# EAGLE library part X9241AWSIZ (library Intersil_By_element14_Batch_1)
Non-Volatile/Low Power/2-Wire/64 Taps
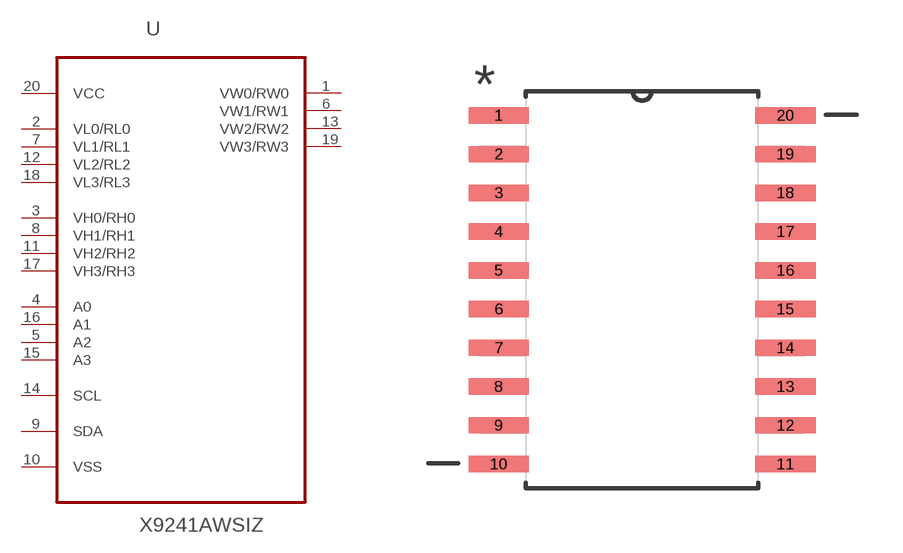
[diagram p229: symbol with the pads of SOIC127P1032X265-20N; footprint SOIC127P1032X265-20N]

Designator prefix U

## X9241AWSIZ (MPN: X9241AWSIZ; OC_FARNELL: 1562074; OC_NEWARK: 79K9068; PACKAGE: SOIC-20; SUPPLIER: Intersil)  [SOIC127P1032X265-20N]
1  VW0/RW0  out
2  VL0/RL0  in
3  VH0/RH0  in
4  A0  in
5  A2  in
6  VW1/RW1  out
7  VL1/RL1  in
8  VH1/RH1  in
9  SDA  in
10  VSS  in
11  VH2/RH2  in
12  VL2/RL2  in
13  VW2/RW2  out
14  SCL  in
15  A3  in
16  A1  in
17  VH3/RH3  in
18  VL3/RL3  in
19  VW3/RW3  out
20  VCC  pwr

## Footprint SOIC127P1032X265-20N (pad centres in mm)
smd 1.981 x 0.533: 1 -4.699,5.715; 2 -4.699,4.445; 3 -4.699,3.175; 4 -4.699,1.905; 5 -4.699,0.635; 6 -4.699,-0.635; 7 -4.699,-1.905; 8 -4.699,-3.175; 9 -4.699,-4.445; 10 -4.699,-5.715; 11 4.699,-5.715; 12 4.699,-4.445; 13 4.699,-3.175; 14 4.699,-1.905; 15 4.699,-0.635; 16 4.699,0.635; 17 4.699,1.905; 18 4.699,3.175; 19 4.699,4.445; 20 4.699,5.715